# Altium schematic symbol library OpticalReceiver 05_10_18.SchLib: 1 symbol
Pins are listed as number, name and electrical type; pins without a type are passive.

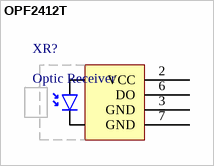
[diagram p0: symbol OPF2412T]

## OPF2412T
designator XR?, comment Optic Receiver
footprint OPF2412T (Optic Receiver)
pins: 2 VCC, 3 GND, 6 DO, 7 GND